# Altium footprint library GJ24.PcbLib: 22 footprints (part 1 of 2)
Each footprint in its own frame and in the unit in brackets; x right, y up, seen from the top. Pads: shape width x height; smd on the part's side, far side on the other; paste and mask are expansions set on the pad; w line width, h text height; cw(c..) or ccw(c..) is an arc to the next point about the centre after c.
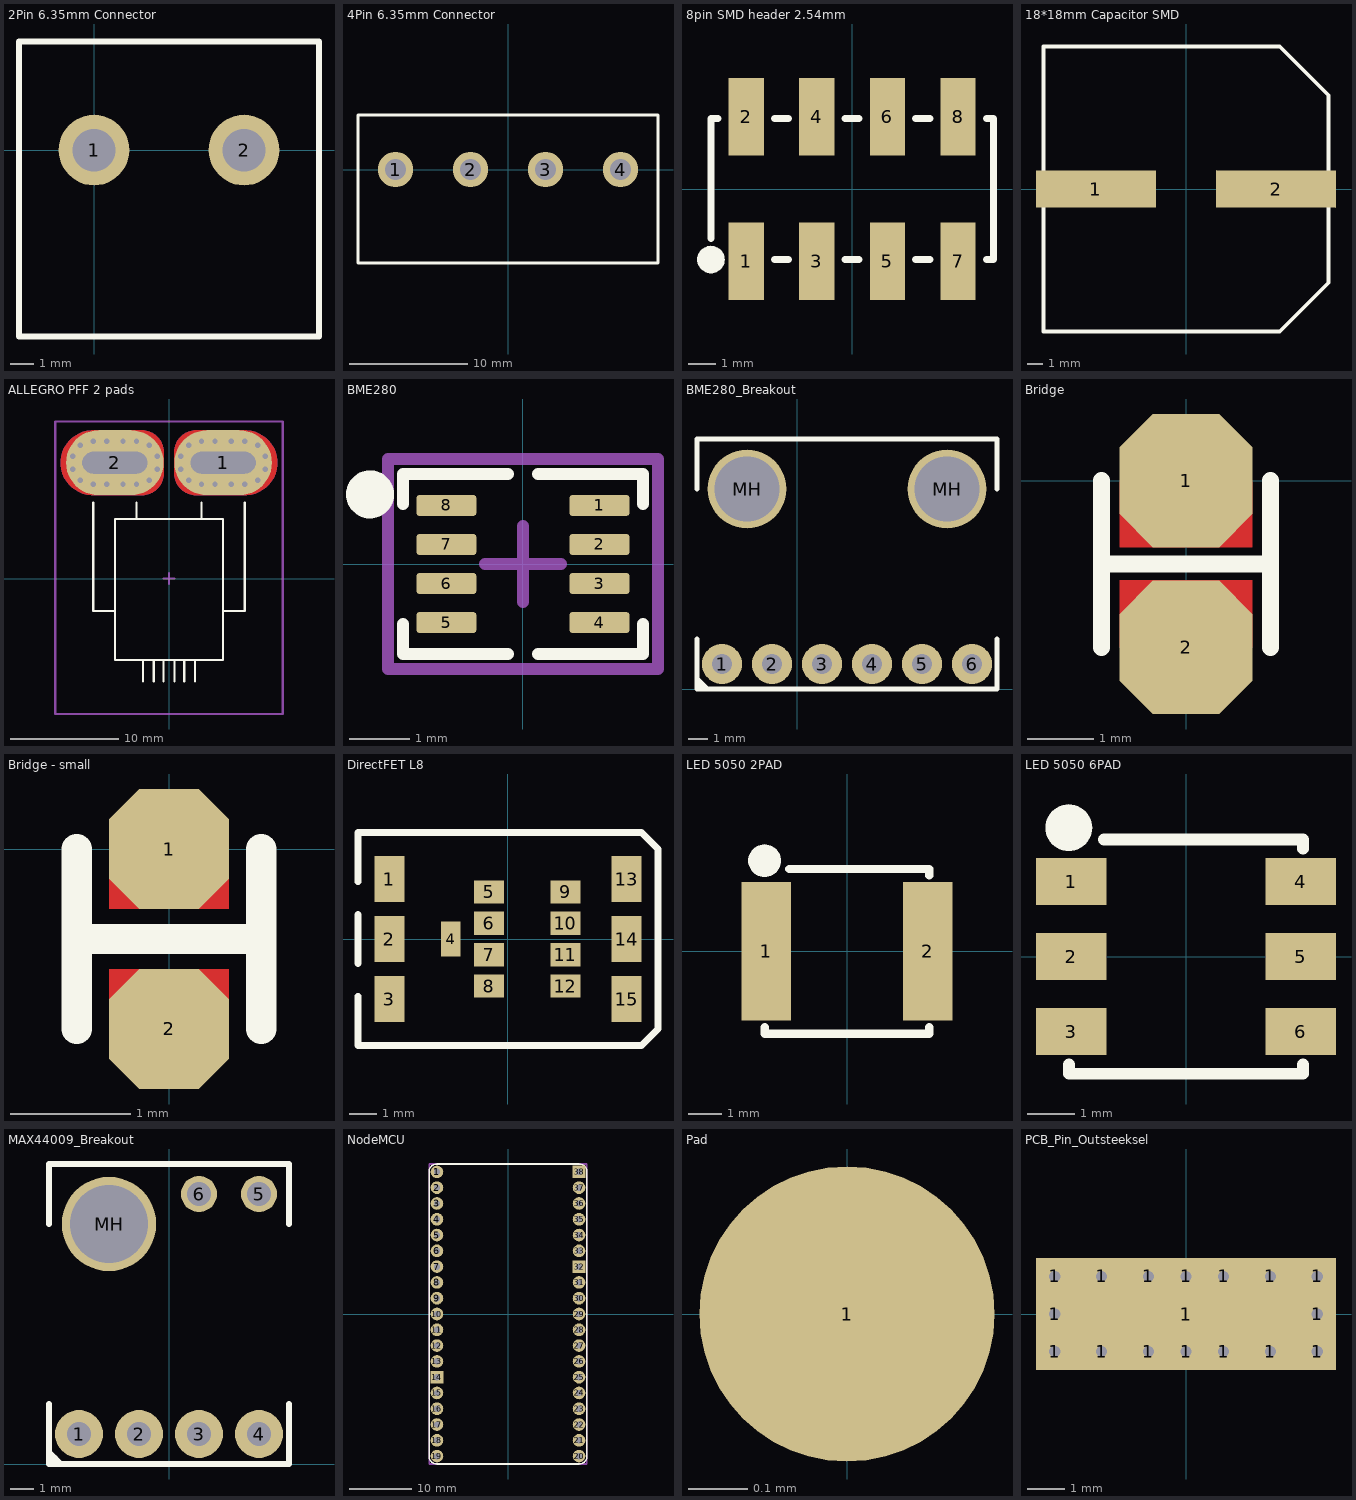
[diagram p0: the footprints below, top view; thin cyan lines are the x and y axes]

## 2Pin 6.35mm Connector [mm]
height 15
pads (2):
  round 3 hole 1.8 paste+0: 1(0,0) 2(6.35,0)
Top Overlay:
  lines w0.254: -3.175,-7.9 9.525,-7.9 9.525,4.6 -3.175,4.6 -3.175,-7.9

## 4Pin 6.35mm Connector [mm]
height 15
pads (4):
  round 3 hole 1.8 paste+0: 1(-9.525,0) 2(-3.175,0) 3(3.175,0) 4(9.525,0)
Top Overlay:
  lines w0.254: -12.7,-7.9 -12.7,4.6 0,4.6 12.7,4.6 12.7,-7.9 0,-7.9 -12.7,-7.9
3D body "37748.stp": height 21.5, standoff -5, extent -0.57,-8 12.7,4.5
3D body "37748.stp": height 21.5, standoff -5, extent -13.27,-8 0,4.5

## 8pin SMD header 2.54mm [mm]
height 8.54
pads (9):
  rect 1.27x2.8 smd: 1(-3.81,-2.6) 2(-3.81,2.6) 3(-1.27,-2.6) 4(-1.27,2.6) 5(1.27,-2.6) 6(1.27,2.6) 7(3.81,-2.6) 8(3.81,2.6)
  round 1 on Top Overlay: ""(-5.08,-2.54)
Top Overlay:
  lines w0.254: -5.08,-2.54 -4.826,-2.54 ; -5.08,-1.778 -5.08,2.54 -4.826,2.54 ; -2.794,-2.54 -2.286,-2.54 ; -2.794,2.54 -2.286,2.54 ; -0.254,-2.54 0.254,-2.54 ; -0.254,2.54 0.254,2.54 ; 2.286,-2.54 2.794,-2.54 ; 2.286,2.54 2.794,2.54 ; 4.826,-2.54 5.08,-2.54 5.08,2.54 4.826,2.54
3D body "DS1021-2x4S61.stp": height 8.6, standoff -3, extent -5.08,-2.5 5.08,2.58

## 18*18mm Capacitor SMD [mm]
height 21
pads (2):
  rect 8x2.5 smd: 1(-6,0) 2(6,0)
Top Overlay:
  lines w0.254: -9.5,-9.5 -9.5,0.5 -9.5,9.5 6.25,9.5 9.5,6.25 9.5,-6.25 6.25,-9.5 -9.5,-9.5

## ALLEGRO PFF 2 pads [mm] "dont forget the 3 signal inputs"
height 7
pads (2):
  oval 9x6 hole 2 slot 6 at 0 deg: 1(5,10.7) 2(-5,10.7)
via 5.75,8.7 diameter 0.9 hole 0.5
via 4.25,8.7 diameter 0.9 hole 0.5
via 4.25,12.7 diameter 0.9 hole 0.5
via 7,12.7 diameter 0.9 hole 0.5
via 8.176,12.318 diameter 0.9 hole 0.5
via 8.902,11.318 diameter 0.9 hole 0.5
via 8.902,10.082 diameter 0.9 hole 0.5
via 8.176,9.082 diameter 0.9 hole 0.5
via 7,8.7 diameter 0.9 hole 0.5
via 3,8.7 diameter 0.9 hole 0.5
via 1.824,9.082 diameter 0.9 hole 0.5
via 1.098,10.082 diameter 0.9 hole 0.5
via 1.098,11.318 diameter 0.9 hole 0.5
via 1.824,12.318 diameter 0.9 hole 0.5
via 3,12.7 diameter 0.9 hole 0.5
via 5.75,12.7 diameter 0.9 hole 0.5
via -4.25,8.7 diameter 0.9 hole 0.5
via -5.75,8.7 diameter 0.9 hole 0.5
via -5.75,12.7 diameter 0.9 hole 0.5
via -3,12.7 diameter 0.9 hole 0.5
via -1.824,12.318 diameter 0.9 hole 0.5
via -1.098,11.318 diameter 0.9 hole 0.5
via -1.098,10.082 diameter 0.9 hole 0.5
via -1.824,9.082 diameter 0.9 hole 0.5
via -3,8.7 diameter 0.9 hole 0.5
via -7,8.7 diameter 0.9 hole 0.5
via -8.176,9.082 diameter 0.9 hole 0.5
via -8.902,10.082 diameter 0.9 hole 0.5
via -8.902,11.318 diameter 0.9 hole 0.5
via -8.176,12.318 diameter 0.9 hole 0.5
via -7,12.7 diameter 0.9 hole 0.5
via -4.25,12.7 diameter 0.9 hole 0.5
Top Layer:
  region: -7,13.7 -7.197,13.7 -7.587,13.649 -7.966,13.547 -8.33,13.396 -8.67,13.2 -8.982,12.96 -9.26,12.682 -9.5,12.37 -9.696,12.03 -9.847,11.666 -9.949,11.287 -10,10.897 -10,10.7 -10,10.503 -9.949,10.113 -9.847,9.734 -9.696,9.37 -9.5,9.03 -9.26,8.718 -8.982,8.44 -8.67,8.2 -8.33,8.004 -7.966,7.853 -7.587,7.751 -7.197,7.7 -7,7.7 -2.5,7.7 -2.303,7.7 -1.917,7.777 -1.553,7.928 -1.225,8.146 -0.946,8.425 -0.728,8.753 -0.577,9.117 -0.5,9.503 -0.5,9.7 -0.5,11.7 -0.5,11.897 -0.577,12.283 -0.728,12.647 -0.946,12.975 -1.225,13.254 -1.553,13.472 -1.917,13.623 -2.303,13.7 -2.5,13.7
  region: 7,13.7 7.197,13.7 7.587,13.649 7.966,13.547 8.33,13.396 8.67,13.2 8.982,12.96 9.26,12.682 9.5,12.37 9.696,12.03 9.847,11.666 9.949,11.287 10,10.897 10,10.7 10,10.503 9.949,10.113 9.847,9.734 9.696,9.37 9.5,9.03 9.26,8.718 8.982,8.44 8.67,8.2 8.33,8.004 7.966,7.853 7.587,7.751 7.197,7.7 7,7.7 2.5,7.7 2.303,7.7 1.917,7.777 1.553,7.928 1.225,8.146 0.946,8.425 0.728,8.753 0.577,9.117 0.5,9.503 0.5,9.7 0.5,11.7 0.5,11.897 0.577,12.283 0.728,12.647 0.946,12.975 1.225,13.254 1.553,13.472 1.917,13.623 2.303,13.7 2.5,13.7
Bottom Layer:
  region: -7,13.7 -7.197,13.7 -7.587,13.649 -7.966,13.547 -8.33,13.396 -8.67,13.2 -8.982,12.96 -9.26,12.682 -9.5,12.37 -9.696,12.03 -9.847,11.666 -9.949,11.287 -10,10.897 -10,10.7 -10,10.503 -9.949,10.113 -9.847,9.734 -9.696,9.37 -9.5,9.03 -9.26,8.718 -8.982,8.44 -8.67,8.2 -8.33,8.004 -7.966,7.853 -7.587,7.751 -7.197,7.7 -7,7.7 -2.5,7.7 -2.303,7.7 -1.917,7.777 -1.553,7.928 -1.225,8.146 -0.946,8.425 -0.728,8.753 -0.577,9.117 -0.5,9.503 -0.5,9.7 -0.5,11.7 -0.5,11.897 -0.577,12.283 -0.728,12.647 -0.946,12.975 -1.225,13.254 -1.553,13.472 -1.917,13.623 -2.303,13.7 -2.5,13.7
  region: 7,13.7 7.197,13.7 7.587,13.649 7.966,13.547 8.33,13.396 8.67,13.2 8.982,12.96 9.26,12.682 9.5,12.37 9.696,12.03 9.847,11.666 9.949,11.287 10,10.897 10,10.7 10,10.503 9.949,10.113 9.847,9.734 9.696,9.37 9.5,9.03 9.26,8.718 8.982,8.44 8.67,8.2 8.33,8.004 7.966,7.853 7.587,7.751 7.197,7.7 7,7.7 2.5,7.7 2.303,7.7 1.917,7.777 1.553,7.928 1.225,8.146 0.946,8.425 0.728,8.753 0.577,9.117 0.5,9.503 0.5,9.7 0.5,11.7 0.5,11.897 0.577,12.283 0.728,12.647 0.946,12.975 1.225,13.254 1.553,13.472 1.917,13.623 2.303,13.7 2.5,13.7
Top Overlay:
  lines w0.2: -7,7 -7,-3 -5,-3 ; -3,5.5 -3,7 ; -2.41,-9.5 -2.41,-7.5 ; -1.41,-9.5 -1.41,-7.5 ; -0.5,-9.5 -0.5,-7.5 ; 0.5,-9.5 0.5,-7.5 ; 1.41,-9.5 1.41,-7.5 ; 2.41,-9.5 2.41,-7.5 ; 3,5.5 3,7 ; 5,-3 7,-3 7,7 ; -5,-7.5 5,-7.5 5,5.5 -5,5.5 -5,-7.5
Mechanical 15:
  lines w0.2: -0.5,0 0.5,0 ; 0,-0.5 0,0.5 ; -10.5,-12.5 -10.5,14.5 10.5,14.5 10.5,-12.5 -10.5,-12.5
3D body "Allegro PFF.STEP": height 7, standoff -3.52, extent -7,-11.086 7,11.5

## BME280 [mm] "Bosch BME280 digital pressure sensor, humidity sensor, and temperature sensor"
height 1.2
pads (8):
  rrect30% 1x0.35 smd: 1(1.275,0.975) 2(1.275,0.325) 3(1.275,-0.325) 4(1.275,-0.975) 5(-1.275,-0.975) 6(-1.275,-0.325) 7(-1.275,0.325) 8(-1.275,0.975)
Top Overlay:
  circle w0.4: c-2.548,1.159 r0.2
  lines w0.2: -2,-1 -2,-1.5 -0.25,-1.5 ; -2,1 -2,1.5 -0.25,1.5 ; 0.25,-1.5 2,-1.5 2,-1 ; 0.25,1.5 2,1.5 2,1
Mechanical 15:
  lines w0.2: -0.635,0 0.635,0 ; 0,-0.635 0,0.635 ; -2.25,-1.75 2.25,-1.75 2.25,1.75 -2.25,1.75 -2.25,-1.75
3D body: height 1, standoff 0, extent -1.25,-1.25 1.25,1.25

## BME280_Breakout [mil] "Bosch BME280 digital pressure sensor, humidity sensor, and temperature sensor"
height 78.74
pads (8):
  round 80 hole 40: 1(-150,50) 2(-50,50) 3(50,50) 4(150,50) 5(250,50) 6(350,50)
  round 157.48 hole 129.92: MH(-100,400) MH(300,400)
Top Overlay:
  lines w10: -200,100 -200,0 ; -200,400 -200,500 400,500 400,400 ; -190,10 -200,0 ; 400,100 400,0 0,0 -180,0 ; -200,0 -200,20 -180,0 ; -200,0 -180,0
3D body: height 78.74, standoff 0, extent -200,0 400,500

## Bridge [mm]
pads (2):
  oct 2x2 smd: 1(0,0) 2(0,-2.5)
Top Layer:
  rectangle: -1,-1 1,0
  rectangle: -1,-2.5 1,-1.492
Top Overlay:
  lines w0.254: -1.27,-2.5 -1.27,-1.25 1.27,-1.25 ; -1.27,-1.27 -1.27,0 ; 1.27,-2.5 1.27,-1.25 ; 1.27,0 1.27,-1.25

## Bridge - small [mm]
pads (2):
  oct 1x1 smd: 1(0,0) 2(0,-1.5)
Top Layer:
  rectangle: -0.5,-1.5 0.5,-1
  rectangle: -0.5,-0.5 0.5,0
Top Overlay:
  lines w0.254: -0.77,-1.5 -0.77,0 ; -0.77,-0.75 0.77,-0.75 ; 0.77,-1.5 0.77,0

## DirectFET L8 [mm]
height 0.7
pads (15):
  rect 1.1x1.7 smd: 1(-4.35,2.2) 2(-4.35,0) 3(-4.35,-2.2) 13(4.35,2.2) 14(4.35,0) 15(4.35,-2.2)
  rect 0.7x1.3 smd: 4(-2.1,0)
  rect 1.1x0.85 smd: 5(-0.7,1.725) 6(-0.7,0.575) 7(-0.7,-0.575) 8(-0.7,-1.725) 9(2.1,1.725) 10(2.1,0.575) 11(2.1,-0.575) 12(2.1,-1.725)
Top Overlay:
  lines w0.254: -5.5,-2.1 -5.5,-3.9 4.9,-3.9 5.5,-3.3 5.5,3.3 4.9,3.9 -5.5,3.9 -5.5,2.1 ; -5.5,-0.9 -5.5,0.9
3D body "User Library-DirectFET-L8_AUIRF7669L2.STEP": height 0.83, standoff 0, extent -4.575,-3.55 4.575,3.55

## LED 5050 2PAD [mm]
height 2
pads (3):
  rect 1.5x4.2 smd: 1(-2.45,0) 2(2.45,0)
  round 1 on Top Overlay: ""(-2.5,2.75)
Top Overlay:
  lines w0.254: -2.5,-2.3 -2.5,-2.5 2.5,-2.5 2.5,-2.3 ; -1.75,2.5 2.5,2.5 2.5,2.3
3D body "smd Led 5050 v3.step": height 1.7, standoff 0.4, extent -2.55,-2.35 2.55,2.35

## LED 5050 6PAD [mm]
height 2
pads (7):
  rect 1.5x1 smd: 1(-2.45,1.6) 2(-2.45,0) 3(-2.45,-1.6) 4(2.45,1.6) 5(2.45,0) 6(2.45,-1.6)
  round 1 on Top Overlay: ""(-2.5,2.75)
Top Overlay:
  lines w0.254: -2.5,-2.3 -2.5,-2.5 2.5,-2.5 2.5,-2.3 ; -1.75,2.5 2.5,2.5 2.5,2.3
3D body "smd Led 5050 v3.step": height 1.7, standoff 0.4, extent -2.55,-2.35 2.55,2.35

## MAX44009_Breakout [mil]
height 78.74
pads (7):
  round 80 hole 40: 1(-150,50) 2(-50,50) 3(50,50) 4(150,50)
  round 60 hole 40: 5(150,450) 6(50,450)
  round 157.48 hole 129.92: MH(-100,400)
Top Overlay:
  lines w10: -200,20 -180,0 ; -200,100 -200,0 ; -200,400 -200,500 200,500 200,400 ; -190,10 -200,0 ; 200,100 200,0 0,0 -200,0
3D body: height 78.74, standoff 0, extent -200,0 200,500

## NodeMCU [mil]
pads (38):
  round 80 hole 40: 1(-450,900) 2(-450,800) 3(-450,700) 4(-450,600) 5(-450,500) 6(-450,400) 7(-450,300) 8(-450,200) 9(-450,100) 10(-450,0) 11(-450,-100) 12(-450,-200) 13(-450,-300) 15(-450,-500) 16(-450,-600) 17(-450,-700) 18(-450,-800) 19(-450,-900) 20(450,-900) 21(450,-800) 22(450,-700) 23(450,-600) 24(450,-500) 25(450,-400) 26(450,-300) 27(450,-200) 28(450,-100) 29(450,0) 30(450,100) 31(450,200) 33(450,400) 34(450,500) 35(450,600) 36(450,700) 37(450,800)
  rect 80x80 hole 40: 14(-450,-400) 32(450,300) 38(450,900)
Top Overlay:
  lines w10: -500,-900 ccw(c-450,-900) -450,-950 450,-950 ccw(c450,-900) 500,-900 500,900 ccw(c450,900) 450,950 -450,950 ccw(c-450,900) -500,900 -500,-900
Mechanical 1:
  lines w10: -500,-950 500,-950 500,950 -500,950 -500,-950
3D body "ESP8266 v7.stp": height 310.63, standoff -244.1, extent -500,-974.8 505.9,947.24

## Pad [mm]
pads (1):
  round 0.5 smd paste+0 mask+0: 1(0,0)

## PCB_Pin_Outsteeksel [mm]
pads (17):
  round 0.6 hole 0.3: 1(-3.5,-1) 1(-3.5,0) 1(-3.5,1) 1(-2.25,-1) 1(-2.25,1) 1(-1,-1) 1(-1,1) 1(0,-1) 1(0,1) 1(1,-1) 1(1,1) 1(2.25,-1) 1(2.25,1) 1(3.5,-1) 1(3.5,0) 1(3.5,1)
  rect 8x3 all layers, no hole: 1(0,0)